# EAGLE library part DMG6602 (library nxp_60)
This new generation MOSFET is designed to minimize the on-state resistance (RDS(on)) and yet maintain superior switching performance, making it ideal for high efficiency power management applications. - Backlighting - DC-DC Converters - Power Management Functions
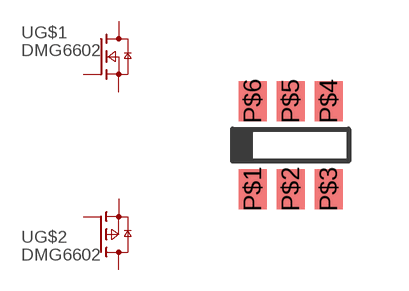
[diagram p132: symbol with the pads of TSOT26; footprint TSOT26]

Designator prefix -; gates G$1=N-MOSFET G$2=P-MOSFET_2D

## DMG6602 (MPN: DMG6602SVTQ)  [TSOT26]
P$1  G$1:G  pas
P$2  G$2:S  pas
P$3  G$2:G  pas
P$4  G$2:D  pas
P$5  G$1:S  pas
P$6  G$1:D  pas

## Footprint TSOT26 (pad centres in mm)
smd 0.7 x 1: P$1 0,0; P$2 0.95,0; P$3 1.9,0; P$4 1.9,2.2; P$5 0.95,2.2; P$6 0,2.2